# EAGLE library part CRUMB644 (library chip45)
Crumb644 Crumb644 is a higly integrated rapid prototyping module with the ATmega644P AVR microcontroller by Atmel.
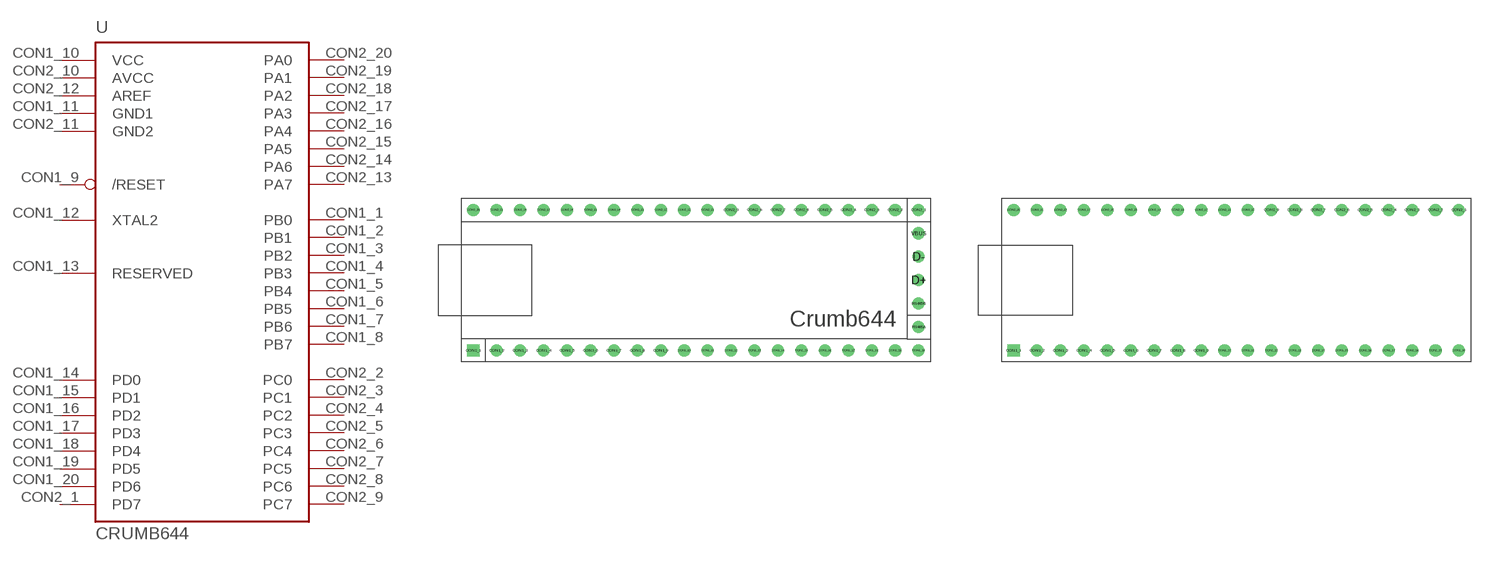
[diagram p7: symbol with the pads of CRUMB644_EXT; footprints CRUMB644_EXT, CRUMB644]

Designator prefix -

## CRUMB644RS485-USB (EEPROM: 4kB; FLASH: 64kB; PERIPHERALS: 2xUART, SPI, I2C, standard Atmel ISP 6-pin, CP2102 USB UART converter, RS285 SN75ALS176B transceiver; PROCESSOR: ATmega644P; RAM: 4kB SRAM)  [CRUMB644_EXT]
CON1_1  PB0
CON1_2  PB1
CON1_3  PB2
CON1_4  PB3
CON1_5  PB4
CON1_6  PB5
CON1_7  PB6
CON1_8  PB7
CON1_9  /RESET  in
CON1_10  VCC  pwr
CON1_11  GND1  pwr
CON1_12  XTAL2
CON1_13  RESERVED  nc
CON1_14  PD0
CON1_15  PD1
CON1_16  PD2
CON1_17  PD3
CON1_18  PD4
CON1_19  PD5
CON1_20  PD6
CON2_1  PD7
CON2_2  PC0
CON2_3  PC1
CON2_4  PC2
CON2_5  PC3
CON2_6  PC4
CON2_7  PC5
CON2_8  PC6
CON2_9  PC7
CON2_10  AVCC  in
CON2_11  GND2  pwr
CON2_12  AREF  in
CON2_13  PA7
CON2_14  PA6
CON2_15  PA5
CON2_16  PA4
CON2_17  PA3
CON2_18  PA2
CON2_19  PA1
CON2_20  PA0

## CRUMB644 (EEPROM: 4kB; FLASH: 64kB; PERIPHERALS: 2xUART, SPI, I2C, standard Atmel ISP 6-pin, CP2102 USB UART converter, RS285 SN75ALS176B transceiver; PROCESSOR: ATmega644P; RAM: 4kB SRAM)  [CRUMB644]
Pads as for CRUMB644_EXT

## Footprint CRUMB644_EXT (pad centres in mm)
Crumb644 Crumb644 offers extensive equipment on just 51x18mm size: the ATmega644P microcontroller in MLF44 package, serial RS485 interface (half duplex), USB 2.0 full speed interface with USB UART converter CP2102, standard 6-pin AVR ISP header for in-system programming, XTAL crystal (HC49, frequency selectable as option), status LED and pin headers with all ATmega644P signals (standard ATmega644P pinout plus 5 additional pins).
drill 0.8 square: CON1_1 -24.13,-7.62
drill 0.8 round: CON1_2 -21.59,-7.62; CON1_3 -19.05,-7.62; CON1_4 -16.51,-7.62; CON1_5 -13.97,-7.62; CON1_6 -11.43,-7.62; CON1_7 -8.89,-7.62; CON1_8 -6.35,-7.62; CON1_9 -3.81,-7.62; CON1_10 -1.27,-7.62; CON1_11 1.27,-7.62; CON1_12 3.81,-7.62; CON1_13 6.35,-7.62; CON1_14 8.89,-7.62; CON1_15 11.43,-7.62; CON1_16 13.97,-7.62; CON1_17 16.51,-7.62; CON1_18 19.05,-7.62; CON1_19 21.59,-7.62; CON1_20 24.13,-7.62; CON2_1 24.13,7.62; CON2_2 21.59,7.62; CON2_3 19.05,7.62; CON2_4 16.51,7.62; CON2_5 13.97,7.62; CON2_6 11.43,7.62; CON2_7 8.89,7.62; CON2_8 6.35,7.62; CON2_9 3.81,7.62; CON2_10 1.27,7.62; CON2_11 -1.27,7.62; CON2_12 -3.81,7.62; CON2_13 -6.35,7.62; CON2_14 -8.89,7.62; CON2_15 -11.43,7.62; CON2_16 -13.97,7.62; CON2_17 -16.51,7.62; CON2_18 -19.05,7.62; CON2_19 -21.59,7.62; CON2_20 -24.13,7.62; D+ 24.13,0; D- 24.13,2.54; RS485A 24.13,-5.08; RS485B 24.13,-2.54; VBUS 24.13,5.08

## Footprint CRUMB644 (pad centres in mm)
Crumb644 Crumb644 offers extensive equipment on just 51x18mm size: the ATmega644P microcontroller in MLF44 package, serial RS485 interface (half duplex), USB 2.0 full speed interface with USB UART converter CP2102, standard 6-pin AVR ISP header for in-system programming, XTAL crystal (HC49, frequency selectable as option), status LED and pin headers with all ATmega644P signals (standard ATmega644P pinout plus 5 additional pins).
drill 0.8 square: CON1_1 -24.13,-7.62
drill 0.8 round: CON1_2 -21.59,-7.62; CON1_3 -19.05,-7.62; CON1_4 -16.51,-7.62; CON1_5 -13.97,-7.62; CON1_6 -11.43,-7.62; CON1_7 -8.89,-7.62; CON1_8 -6.35,-7.62; CON1_9 -3.81,-7.62; CON1_10 -1.27,-7.62; CON1_11 1.27,-7.62; CON1_12 3.81,-7.62; CON1_13 6.35,-7.62; CON1_14 8.89,-7.62; CON1_15 11.43,-7.62; CON1_16 13.97,-7.62; CON1_17 16.51,-7.62; CON1_18 19.05,-7.62; CON1_19 21.59,-7.62; CON1_20 24.13,-7.62; CON2_1 24.13,7.62; CON2_2 21.59,7.62; CON2_3 19.05,7.62; CON2_4 16.51,7.62; CON2_5 13.97,7.62; CON2_6 11.43,7.62; CON2_7 8.89,7.62; CON2_8 6.35,7.62; CON2_9 3.81,7.62; CON2_10 1.27,7.62; CON2_11 -1.27,7.62; CON2_12 -3.81,7.62; CON2_13 -6.35,7.62; CON2_14 -8.89,7.62; CON2_15 -11.43,7.62; CON2_16 -13.97,7.62; CON2_17 -16.51,7.62; CON2_18 -19.05,7.62; CON2_19 -21.59,7.62; CON2_20 -24.13,7.62